# Altium footprint library Arduino_MEGA_ADK.PcbLib: 19 footprints (part 1 of 2)
Each footprint in its own frame and in the unit in brackets; x right, y up, seen from the top. Pads: shape width x height; smd on the part's side, far side on the other; paste and mask are expansions set on the pad; w line width, h text height; cw(c..) or ccw(c..) is an arc to the next point about the centre after c.
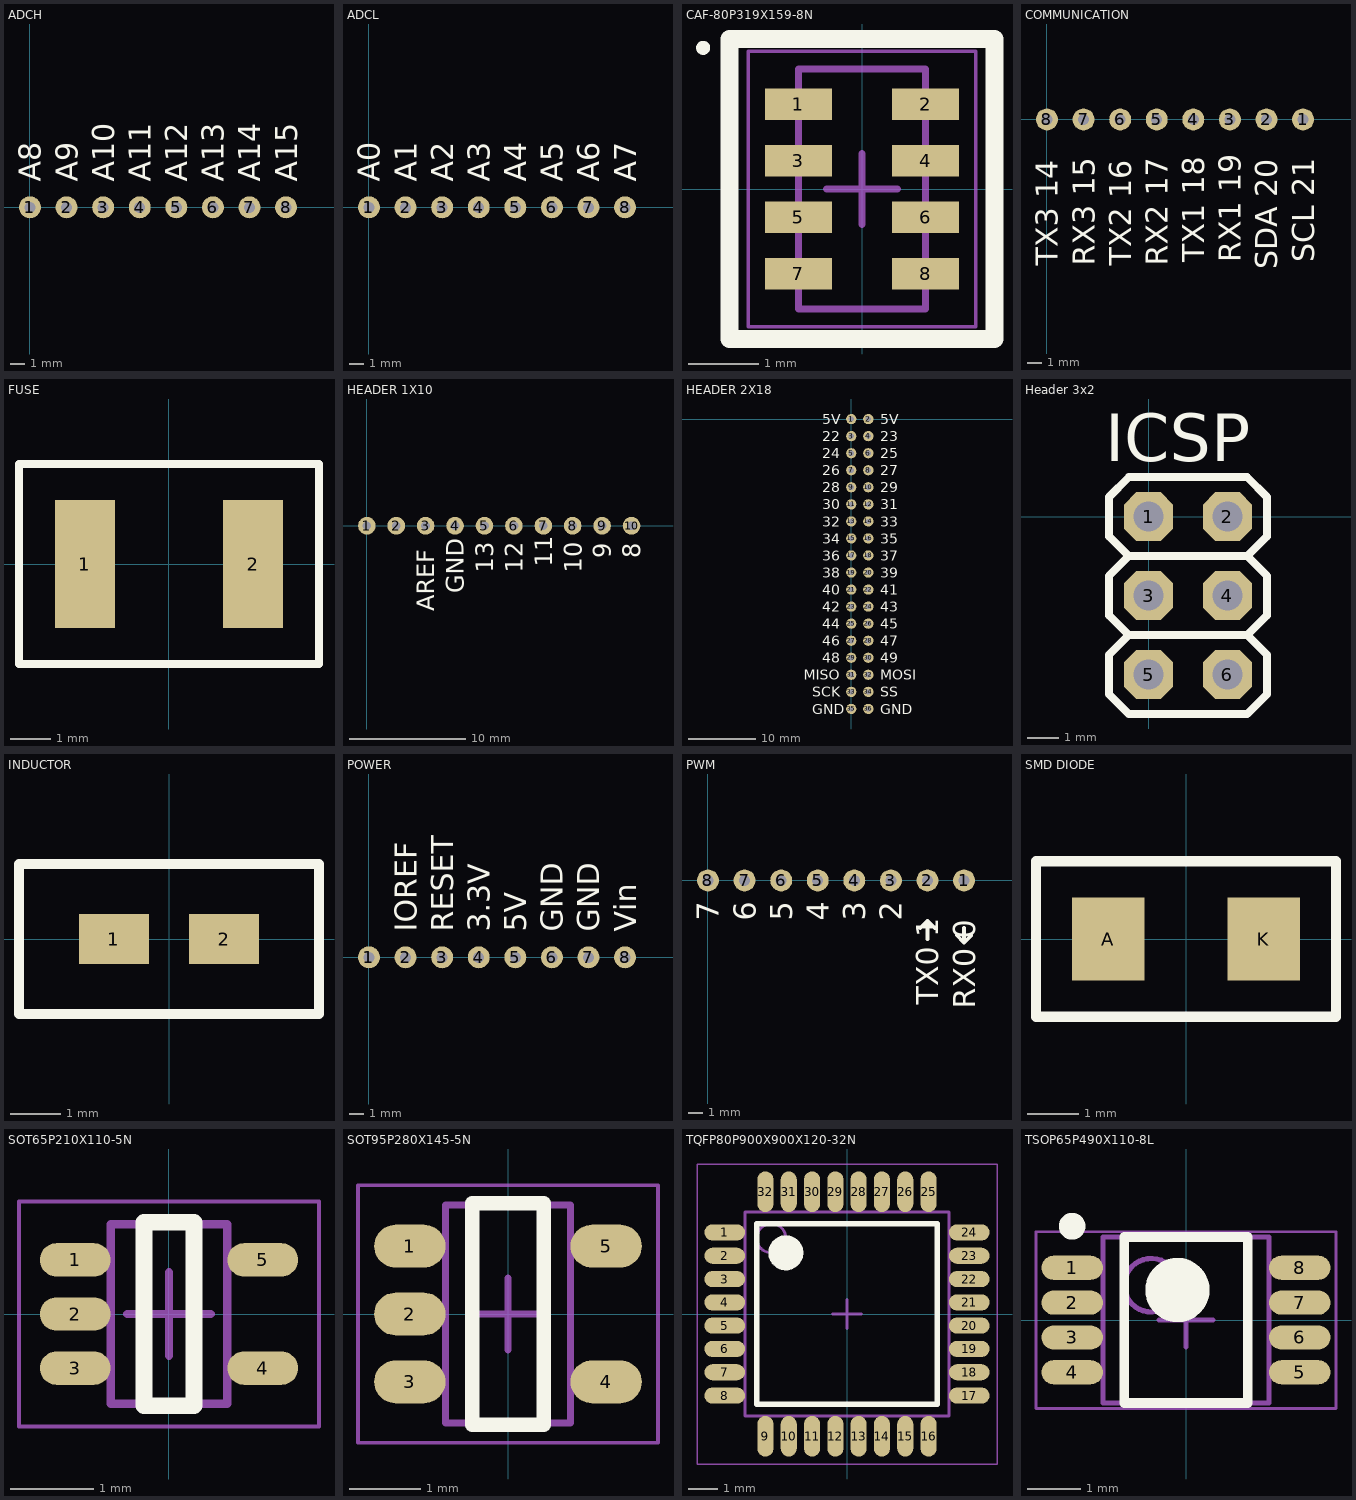
[diagram p0: the footprints below, top view; thin cyan lines are the x and y axes]

## ADCH [mil]
pads (8):
  round 60 hole 30: 1(0,0) 2(100,0) 3(200,0) 4(300,0) 5(400,0) 6(500,0) 7(600,0) 8(700,0)
Top Overlay:
  text "A15" at 730,70 h60
  text "A14" at 630,70 h60
  text "A13" at 530,70 h60
  text "A12" at 430,70 h60
  text "A11" at 330,70 h60
  text "A10" at 230,70 h60
  text "A9" at 130,70 h60
  text "A8" at 30,70 h60
3D body: height 275.59, standoff -118.11, extent -50,-50 750,50

## ADCL [mil]
pads (8):
  round 60 hole 30: 1(0,0) 2(100,0) 3(200,0) 4(300,0) 5(400,0) 6(500,0) 7(600,0) 8(700,0)
Top Overlay:
  text "A0" at 30,70 h60
  text "A1" at 130,70 h60
  text "A2" at 230,70 h60
  text "A3" at 330,70 h60
  text "A4" at 430,70 h60
  text "A5" at 530,70 h60
  text "A6" at 630,70 h60
  text "A7" at 730,70 h60
3D body: height 275.59, standoff -118.11, extent -49.99,-49.99 750.01,50.01

## CAF-80P319X159-8N [mm] "Chip Array, Flat, 8-Leads, Pitch 0,80mm,  Body 3,20x1,60mm,  IPC Medium Density"
height 0.5
pads (8):
  rect 0.95x0.45 smd: 1(-0.9,1.2) 2(0.9,1.2) 3(-0.9,0.4) 4(0.9,0.4) 5(-0.9,-0.4) 6(0.9,-0.4) 7(-0.9,-1.2) 8(0.9,-1.2)
Top Overlay:
  circle w0.1: c-2.25,2 r0.05
  lines w0.254: -1.875,-2.125 1.875,-2.125 1.875,2.125 -1.875,2.125 -1.875,-2.125
Mechanical 13:
  lines w0.1: -0.9,-1.7 -0.9,1.7 0.9,1.7 0.9,-1.7 -0.9,-1.7
Mechanical 15:
  lines w0.05: -1.61,-1.95 -1.61,1.95 1.61,1.95 1.61,-1.95 -1.61,-1.95
  lines w0.1: -0.5,0 0.5,0 ; 0,-0.5 0,0.5
3D body: height 0.5, standoff 0, extent -0.775,-1.6 0.825,1.6

## COMMUNICATION [mil]
pads (8):
  round 60 hole 30: 1(700,0) 2(600,0) 3(500,0) 4(400,0) 5(300,0) 6(200,0) 7(100,0) 8(0,0)
Top Overlay:
  text "SCL 21" at 730,-390 h60
  text "SDA 20" at 630,-410 h60
  text "RX1 19" at 530,-390 h60
  text "TX1 18" at 430,-390 h60
  text "RX2 17" at 330,-400 h60
  text "TX2 16" at 230,-400 h60
  text "RX3 15" at 130,-400 h60
  text "TX3 14" at 30,-400 h60
3D body: height 275.59, standoff -118.11, extent -50,-50 750,50

## FUSE [mm]
pads (2):
  rect 1.5x3.2 smd: 1(-2.1,0) 2(2.1,0)
Top Overlay:
  lines w0.2: -3.75,-2.5 -3.75,0 -3.75,2.5 3.75,2.5 3.75,-2.5 -3.75,-2.5
3D body: height 1.32, standoff 0, extent -2.41,-1.61 2.41,1.61

## HEADER 1X10 [mil]
pads (10):
  round 60 hole 30: 1(0,0) 2(100,0) 3(200,0) 4(300,0) 5(400,0) 6(500,0) 7(600,0) 8(700,0) 9(800,0) 10(900,0)
Top Overlay:
  text "8" at 930,-110 h60
  text "9" at 830,-110 h60
  text "10" at 730,-160 h60
  text "11" at 630,-140 h60
  text "12" at 530,-160 h60
  text "13" at 430,-160 h60
  text "GND" at 330,-230 h60
  text "AREF" at 230,-290 h60
3D body: height 275.59, standoff -118.11, extent -50,-50 950,50

## HEADER 2X18 [mil]
pads (36):
  round 60 hole 30: 1(0,0) 2(100,0) 3(0,-100) 4(100,-100) 5(0,-200) 6(100,-200) 7(0,-300) 8(100,-300) 9(0,-400) 10(100,-400) 11(0,-500) 12(100,-500) 13(0,-600) 14(100,-600) 15(0,-700) 16(100,-700) 17(0,-800) 18(100,-800) 19(0,-900) 20(100,-900) 21(0,-1000) 22(100,-1000) 23(0,-1100) 24(100,-1100) 25(0,-1200) 26(100,-1200) 27(0,-1300) 28(100,-1300) 29(0,-1400) 30(100,-1400) 31(0,-1500) 32(100,-1500) 33(0,-1600) 34(100,-1600) 35(0,-1700) 36(100,-1700)
Top Overlay:
  text "5V" at -170,-30 h60
  text "5V" at 170,-30 h60
  text "22" at -170,-130 h60
  text "23" at 170,-130 h60
  text "24" at -170,-230 h60
  text "25" at 170,-230 h60
  text "26" at -170,-330 h60
  text "27" at 170,-330 h60
  text "28" at -170,-430 h60
  text "29" at 170,-430 h60
  text "30" at -170,-530 h60
  text "31" at 170,-530 h60
  text "32" at -170,-630 h60
  text "33" at 170,-630 h60
  text "34" at -170,-730 h60
  text "35" at 170,-730 h60
  text "36" at -170,-830 h60
  text "37" at 170,-830 h60
  text "38" at -170,-930 h60
  text "39" at 170,-930 h60
  text "40" at -170,-1030 h60
  text "41" at 170,-1030 h60
  text "42" at -170,-1130 h60
  text "43" at 170,-1130 h60
  text "44" at -170,-1230 h60
  text "45" at 170,-1230 h60
  text "46" at -170,-1330 h60
  text "47" at 170,-1330 h60
  text "48" at -170,-1430 h60
  text "49" at 170,-1430 h60
  text "MISO" at -280,-1530 h60
  text "MOSI" at 170,-1530 h60
  text "SCK" at -230,-1630 h60
  text "SS" at 170,-1630 h60
  text "GND" at -230,-1730 h60
  text "GND" at 170,-1730 h60
3D body: height 326.77, standoff 0, extent -50,-1737.23 150,36

## Header 3x2 [mm]
pads (6):
  oct 1.575x1.575 hole 0.965: 1(0,0) 2(2.54,0) 3(0,-2.54) 4(2.54,-2.54) 5(0,-5.08) 6(2.54,-5.08)
Top Overlay:
  lines w0.254: -0.635,-3.81 3.175,-3.81 ; -0.635,-3.81 -1.27,-3.175 -1.27,-1.905 -0.635,-1.27 ; -0.635,-3.81 -1.27,-4.445 -1.27,-5.715 -0.635,-6.35 3.175,-6.35 3.81,-5.715 3.81,-4.445 3.175,-3.81 ; -0.635,-1.27 3.175,-1.27 ; -0.635,-1.27 -1.27,-0.635 -1.27,0.635 -0.635,1.27 3.175,1.27 3.81,0.635 3.81,-0.635 3.175,-1.27 ; 3.175,-3.81 3.81,-3.175 3.81,-1.905 3.175,-1.27
  text "ICSP" at -1.397,1.778 h1.52
3D body: height 8.38, standoff -3.81, extent -1.27,-6.35 3.81,1.27

## INDUCTOR [mm]
pads (2):
  rect 1.4x1 smd: 1(-1.1,0) 2(1.1,0)
Top Overlay:
  lines w0.2: -3,-1.5 3,-1.5 3,1.5 -3,1.5 -3,0 -3,-1.5
3D body: height 0.95, standoff 0, extent -1,-0.6 1,0.6

## POWER [mil]
pads (8):
  round 60 hole 30: 1(0,0) 2(100,0) 3(200,0) 4(300,0) 5(400,0) 6(500,0) 7(600,0) 8(700,0)
Top Overlay:
  text "IOREF" at 130,70 h60
  text "RESET" at 230,70 h60
  text "3.3V" at 330,70 h60
  text "5V" at 430,70 h60
  text "GND" at 530,70 h60
  text "GND" at 630,70 h60
  text "Vin" at 730,70 h60
3D body: height 275.59, standoff -118.11, extent -50,-50 750,50

## PWM [mil]
pads (8):
  round 60 hole 30: 1(700,0) 2(600,0) 3(500,0) 4(400,0) 5(300,0) 6(200,0) 7(100,0) 8(0,0)
Top Overlay:
  lines w10: 580,-130 600,-110 ; 600,-160 600,-110 ; 620,-130 600,-110 ; 680,-150 700,-170 ; 700,-130 700,-170 ; 720,-150 700,-170
  text "RX0 0" at 730,-350 h60
  text "TX0 1" at 630,-340 h60
  text "2" at 530,-110 h60
  text "3" at 430,-110 h60
  text "4" at 330,-110 h60
  text "5" at 230,-110 h60
  text "6" at 130,-110 h60
  text "7" at 30,-110 h60
3D body: height 275.59, standoff -118.11, extent -50,-50 750,50

## SMD DIODE [mm]
pads (2):
  rect 1.4x1.6 smd: A(-1.5,0) K(1.5,0)
Top Overlay:
  lines w0.2: -2.9,-1.5 2.9,-1.5 2.9,1.5 -2.9,1.5 -2.9,0 -2.9,-1.5
3D body: height 0.85, standoff 0, extent -1.675,-0.865 1.675,0.865

## SOT65P210X110-5N [mm] "SOT23, 5-Leads, Body 2,00x2,10mm, Pitch 0,65mm, IPC Medium Density"
height 1.1
pads (5):
  oval 0.85x0.4 smd: 1(-1.125,0.65) 2(-1.125,0) 3(-1.125,-0.65) 4(1.125,-0.65) 5(1.125,0.65)
Top Overlay:
  lines w0.2: -0.3,-1.1 -0.3,1.1 0.3,1.1 0.3,-1.1 -0.3,-1.1
Mechanical 13:
  lines w0.1: -0.7,-1.075 0.7,-1.075 0.7,1.075 -0.7,1.075 -0.7,-1.075
Mechanical 15:
  lines w0.05: -1.8,-1.35 1.8,-1.35 1.8,1.35 -1.8,1.35 -1.8,-1.35
  lines w0.1: -0.5,0 0.5,0 ; 0,-0.5 0,0.5
3D body: height 1.1, standoff 0, extent -0.7,-1.075 0.7,1.075

## SOT95P280X145-5N [mm] "SOT23, 5-Leads, Body 2,90x2,80mm, Pitch 0,95mm, IPC Medium Density"
height 1.45
pads (5):
  oval 1x0.6 smd: 1(-1.375,0.95) 2(-1.375,0) 3(-1.375,-0.95) 4(1.375,-0.95) 5(1.375,0.95)
Top Overlay:
  lines w0.2: -0.5,-1.55 -0.5,1.55 0.5,1.55 0.5,-1.55 -0.5,-1.55
Mechanical 13:
  lines w0.1: -0.875,-1.525 0.875,-1.525 0.875,1.525 -0.875,1.525 -0.875,-1.525
Mechanical 15:
  lines w0.05: -2.1,-1.8 2.1,-1.8 2.1,1.8 -2.1,1.8 -2.1,-1.8
  lines w0.1: -0.5,0 0.5,0 ; 0,-0.5 0,0.5
3D body: height 1.45, standoff 0, extent -0.875,-1.525 0.875,1.525

## TQFP80P900X900X120-32N [mm] "TQFP, 32-Leads, Body 7,00x7,00mm, Pitch 0,80mm, IPC Medium Density"
height 1.2
pads (32):
  oval 1.4x0.55 smd: 1(-4.2,2.8) 2(-4.2,2) 3(-4.2,1.2) 4(-4.2,0.4) 5(-4.2,-0.4) 6(-4.2,-1.2) 7(-4.2,-2) 8(-4.2,-2.8) 17(4.2,-2.8) 18(4.2,-2) 19(4.2,-1.2) 20(4.2,-0.4) 21(4.2,0.4) 22(4.2,1.2) 23(4.2,2) 24(4.2,2.8)
  oval 0.55x1.4 smd: 9(-2.8,-4.2) 10(-2,-4.2) 11(-1.2,-4.2) 12(-0.4,-4.2) 13(0.4,-4.2) 14(1.2,-4.2) 15(2,-4.2) 16(2.8,-4.2) 25(2.8,4.2) 26(2,4.2) 27(1.2,4.2) 28(0.4,4.2) 29(-0.4,4.2) 30(-1.2,4.2) 31(-2,4.2) 32(-2.8,4.2)
Top Overlay:
  circle w0.6: c-2.1,2.1 r0.3
  lines w0.2: -3.1,-3.1 3.1,-3.1 3.1,3.1 -3.1,3.1 -3.1,-3.1
Mechanical 13:
  circle w0.1: c-2.6,2.6 r0.5
  lines w0.1: -3.5,-3.5 3.5,-3.5 3.5,3.5 -3.5,3.5 -3.5,-3.5
Mechanical 15:
  lines w0.05: -5.15,-5.15 5.15,-5.15 5.15,5.15 -5.15,5.15 -5.15,-5.15
  lines w0.1: -0.5,0 0.5,0 ; 0,-0.5 0,0.5
3D body: height 1.2, standoff 0.05, extent -3.5,-3.5 3.5,3.5

## TSOP65P490X110-8L [mm] "TSOP, 8-Leads, Body 3,00x3,00mm, Pitch 0,65mm, IPC High Density"
height 1.1
pads (8):
  oval 1.15x0.45 smd: 1(-2.125,0.975) 2(-2.125,0.325) 3(-2.125,-0.325) 4(-2.125,-0.975) 5(2.125,-0.975) 6(2.125,-0.325) 7(2.125,0.325) 8(2.125,0.975)
Top Overlay:
  circle w0.25: c-2.125,1.75 r0.125
  circle w0.6: c-0.16,0.56 r0.3
  lines w0.18: -1.15,-1.55 -1.15,1.55 1.15,1.55 1.15,-1.55 -1.15,-1.55
Mechanical 13:
  circle w0.1: c-0.65,0.65 r0.5
  lines w0.1: -1.55,-1.55 -1.55,1.55 1.55,1.55 1.55,-1.55 -1.55,-1.55
Mechanical 15:
  lines w0.05: -2.8,-1.65 -2.8,1.65 2.8,1.65 2.8,-1.65 -2.8,-1.65
  lines w0.1: -0.5,0 0.5,0 ; 0,-0.5 0,0.5
3D body: height 1.1, standoff 0.05, extent -1.55,-1.55 1.55,1.55